# EAGLE library part B7B-XH-A (library WiFiPicoDMX)
XH Connector Top Entry - 7POS Reference:
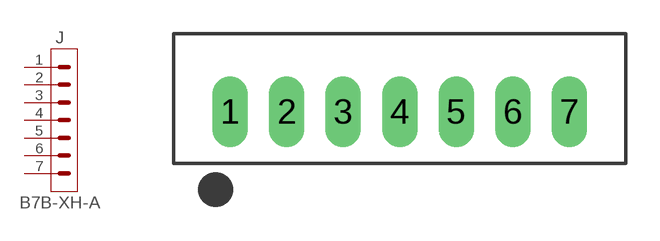
[diagram p3: symbol with the pads of B7B-XH-A; footprint B7B-XH-A]

Designator prefix J

## B7B-XH-A (CATEGORY: Connectors; DATASHEET: https://www.jst-mfg.com/product/pdf/eng/eXH.pdf; MANUFACTURER: JST Sales America Inc.; SUBCATEGORY: Rectangular Connectors; TYPE: Male Headers)  [B7B-XH-A]
1  1  pas
2  2  pas
3  3  pas
4  4  pas
5  5  pas
6  6  pas
7  7  pas

## Footprint B7B-XH-A (pad centres in mm)
drill 1.05 long: 1 -7.5,0; 2 -5,0; 3 -2.5,0; 4 0,0; 5 2.5,0; 6 5,0; 7 7.5,0